# Altium integrated library VJ0603Y105KXJCW1BC.IntLib: 1 symbol
Pins are listed as number, name and electrical type; pins without a type are passive.

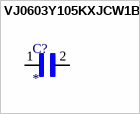
[diagram p0: symbol VJ0603Y105KXJCW1BC]

## VJ0603Y105KXJCW1BC
designator C?
CAP CER 1UF 16V X7R 0603; MP: VJ0603Y105KXJCW1BC; MF: Vishay Vitramon; Check_prices: https://www.snapeda.com/parts/VJ0603Y105KXJCW1BC/Vishay+Vitramon/view-part/?ref=eda; Package: None; Purchase-URL: https://pricing.snapeda.com/search/part/VJ0603Y105KXJCW1BC/?ref=eda; Digi-Key_Part_Number: 720-1852-2-ND; SnapEDA_Link: https://www.snapeda.com/parts/VJ0603Y105KXJCW1BC/Vishay+Vitramon/view-part/?ref=snap; Value: *
footprint CAPC1608X95N
pins: 1, 2